# EAGLE library part STM32F030C* (library display-r2)
Value-line ARM ® -based 32-bit MCU with up to 256-KB Flash, timers, ADC, communication interfaces, 2.4-3.6 V operation
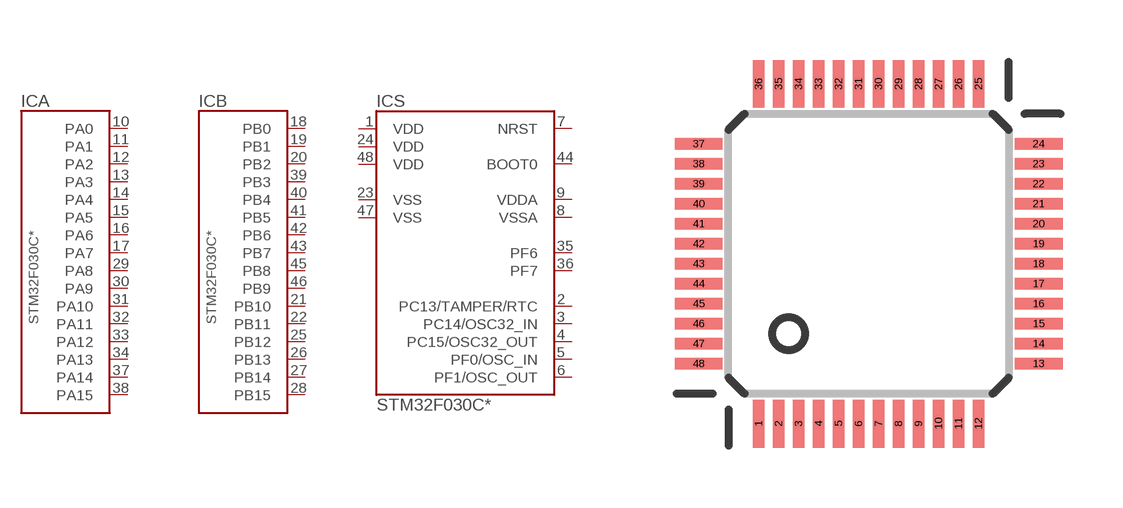
[diagram p6: symbol with the pads of LQFP-48; footprint LQFP-48]

Designator prefix IC; gates A=PORTA B=PORTB S=STM32F030X4/6/8-48-OTHER

## STM32F030C, STM32F030C6 (FLASH: 32k; RAM: 4k), STM32F030C8 (FLASH: 64k; RAM: 8k)  [LQFP-48]
1  S:VDD
2  S:PC13/TAMPER/RTC
3  S:PC14/OSC32_IN
4  S:PC15/OSC32_OUT
5  S:PF0/OSC_IN
6  S:PF1/OSC_OUT
7  S:NRST
8  S:VSSA
9  S:VDDA
10  A:PA0
11  A:PA1
12  A:PA2
13  A:PA3
14  A:PA4
15  A:PA5
16  A:PA6
17  A:PA7
18  B:PB0
19  B:PB1
20  B:PB2
21  B:PB10
22  B:PB11
23  S:VSS
24  S:VDD
25  B:PB12
26  B:PB13
27  B:PB14
28  B:PB15
29  A:PA8
30  A:PA9
31  A:PA10
32  A:PA11
33  A:PA12
34  A:PA13
35  S:PF6
36  S:PF7
37  A:PA14
38  A:PA15
39  B:PB3
40  B:PB4
41  B:PB5
42  B:PB6
43  B:PB7
44  S:BOOT0
45  B:PB8
46  B:PB9
47  S:VSS
48  S:VDD

## Footprint LQFP-48 (pad centres in mm)
smd 0.28 x 1.2: 1 -2.75,-4.25; 2 -2.25,-4.25; 3 -1.75,-4.25; 4 -1.25,-4.25; 5 -0.75,-4.25; 6 -0.25,-4.25; 7 0.25,-4.25; 8 0.75,-4.25; 9 1.25,-4.25; 10 1.75,-4.25; 11 2.25,-4.25; 12 2.75,-4.25; 25 2.75,4.25; 26 2.25,4.25; 27 1.75,4.25; 28 1.25,4.25; 29 0.75,4.25; 30 0.25,4.25; 31 -0.25,4.25; 32 -0.75,4.25; 33 -1.25,4.25; 34 -1.75,4.25; 35 -2.25,4.25; 36 -2.75,4.25
smd 1.2 x 0.28: 13 4.25,-2.75; 14 4.25,-2.25; 15 4.25,-1.75; 16 4.25,-1.25; 17 4.25,-0.75; 18 4.25,-0.25; 19 4.25,0.25; 20 4.25,0.75; 21 4.25,1.25; 22 4.25,1.75; 23 4.25,2.25; 24 4.25,2.75; 37 -4.25,2.75; 38 -4.25,2.25; 39 -4.25,1.75; 40 -4.25,1.25; 41 -4.25,0.75; 42 -4.25,0.25; 43 -4.25,-0.25; 44 -4.25,-0.75; 45 -4.25,-1.25; 46 -4.25,-1.75; 47 -4.25,-2.25; 48 -4.25,-2.75